# EAGLE library part 838_SCARTPCB_FINGERS (library 838_Components)
SCART CONNECTOR FINGERS FOR PCB
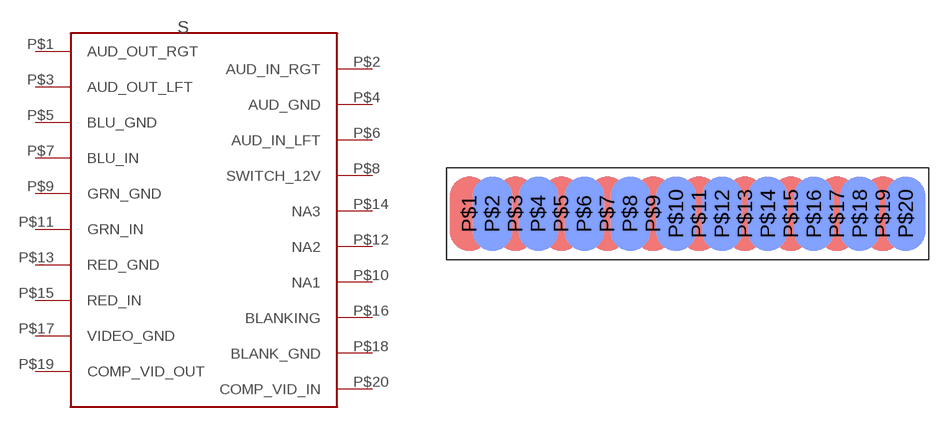
[diagram p2: symbol with the pads of 838-SCARTPCB-FINGERS; footprint 838-SCARTPCB-FINGERS]

Designator prefix S

## 838_SCARTPCB_FINGERS  [838-SCARTPCB-FINGERS]
P$1  AUD_OUT_RGT
P$2  AUD_IN_RGT
P$3  AUD_OUT_LFT
P$4  AUD_GND
P$5  BLU_GND
P$6  AUD_IN_LFT
P$7  BLU_IN
P$8  SWITCH_12V
P$9  GRN_GND
P$10  NA1
P$11  GRN_IN
P$12  NA2
P$13  RED_GND
P$14  NA3
P$15  RED_IN
P$16  BLANKING
P$17  VIDEO_GND
P$18  BLANK_GND
P$19  COMP_VID_OUT
P$20  COMP_VID_IN

## Footprint 838-SCARTPCB-FINGERS (pad centres in mm)
smd 3.175 x 6: P$1 -22.2,3.7; P$3 -18.5,3.7; P$5 -14.8,3.7; P$7 -11.1,3.7; P$9 -7.4,3.7; P$11 -3.7,3.7; P$13 0,3.7; P$15 3.7,3.7; P$17 7.4,3.7; P$19 11.1,3.7
smd 3.175 x 6 bottom: P$2 -20.35,3.7; P$4 -16.65,3.7; P$6 -12.95,3.7; P$8 -9.25,3.7; P$10 -5.55,3.7; P$12 -1.85,3.7; P$14 1.85,3.7; P$16 5.55,3.7; P$18 9.25,3.7; P$20 12.95,3.7